# Altium footprint library v-reg.PCBLIB: 52 footprints (part 1 of 4)
Each footprint in its own frame and in the unit in brackets; x right, y up, seen from the top. Pads: shape width x height; smd on the part's side, far side on the other; paste and mask are expansions set on the pad; w line width, h text height; cw(c..) or ccw(c..) is an arc to the next point about the centre after c.
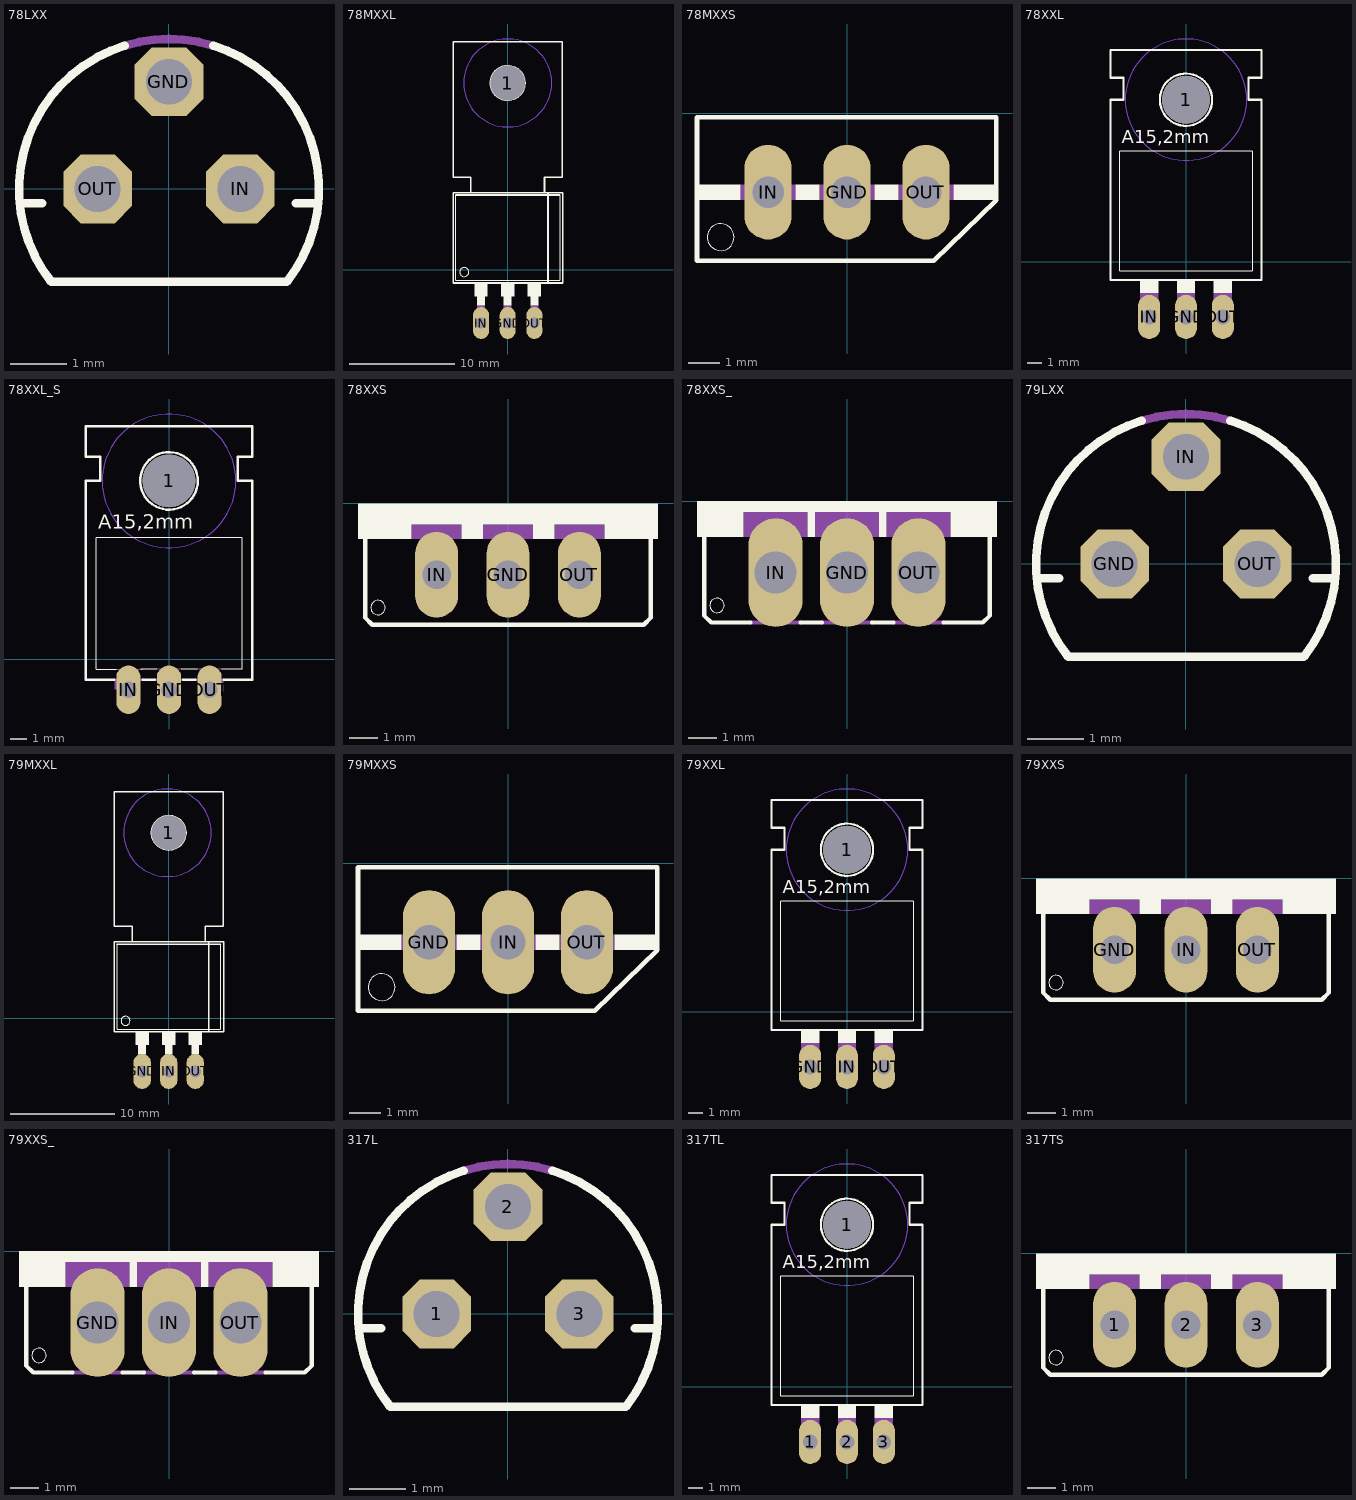
[diagram p0: the footprints below, top view; thin cyan lines are the x and y axes]

## 78LXX [mil]
pads (3):
  oct 48x48 hole 32: GND(0,75) IN(50,0) OUT(-50,0)
Top Overlay:
  lines w6: -104.53,-10 -88.74,-10 ; -82.48,-65 82.48,-65 ccw(c0.02,0) 30.98,100.33 ; -82.46,-65 cw(c0,0) -30.96,100.33 ; 88.74,-10 104.53,-10
Mechanical 16:
  lines w6: -30.96,100.33 cw(c0,-0.02) 30.96,100.33
  text "-" at -25,35 h77.5
  text "O" at -70,-25 h77.5
  text "I" at 25,-25 h77.5

## 78MXXL [mil]
pads (4):
  round 130 hole 130: 1(0,700)
  oval 60x120 hole 40: GND(0,-200) IN(-100,-200) OUT(100,-200)
Bottom Layer keep-out:
  circle w0: c0,700 r165
Top Overlay:
  circle w0: c-163,-9 r17
  circle w6: c0,700 r65
  rectangle: -25,-100 25,-50
  rectangle: 75,-100 125,-50
  rectangle: -125,-100 -75,-50
  rectangle: 85,-135 115,-100
  rectangle: -15,-135 15,-100
  rectangle: -115,-135 -85,-100
  lines w2: -195,280 -195,-40 195,-40 195,280
  lines w6: -195,280 195,280 ; -138,289 -138,347 -205,347 -205,855 205,855 205,347 138,347 138,289 ; -138,289 -205,289 -205,-50 151,-50 ; -138,289 138,289 ; 138,289 151,289 ; 151,-50 151,289 ; 151,-50 207,-50 207,289 151,289
Mechanical 16:
  rectangle: 85,-200 115,-135
  rectangle: -15,-200 15,-135
  rectangle: -115,-200 -85,-135
  text "-" at -20,-25 h77.5
  text "O" at 80,-25 h77.5
  text "I" at -115,-25 h77.5
Via Holes:
  circle w0: c0,700 r165

## 78MXXS [mil]
pads (3):
  oval 60x120 hole 40: GND(0,-100) IN(-100,-100) OUT(100,-100)
Top Overlay:
  circle w0: c-160,-157 r17
  rectangle: 135,-110 190,-90
  rectangle: 35,-110 65,-90
  rectangle: -65,-110 -35,-90
  rectangle: -190,-110 -135,-90
  lines w6: -190,-187 110,-187 189,-110 189,-5 -190,-5 -190,-187
Mechanical 16:
  rectangle: -135,-110 -65,-90
  rectangle: -35,-110 35,-90
  rectangle: 65,-110 135,-90
  text "-" at -20,-70 h77.5
  text "I" at -120,-70 h77.5
  text "O" at 80,-70 h77.5

## 78XXL [mil]
pads (4):
  round 130 hole 130: 1(0,440)
  oval 60x120 hole 40: GND(0,-150) IN(-100,-150) OUT(100,-150)
Bottom Layer keep-out:
  circle w0: c0,440 r165
Top Overlay:
  circle w6: c0,440 r71
  rectangle: 75,-85 125,-50
  rectangle: -25,-85 25,-50
  rectangle: -125,-85 -75,-50
  lines w2: -180,-25 180,-25 180,300 -180,300 -180,-25
  lines w6: -205,-50 205,-50 205,440 170,440 170,500 205,500 205,575 -205,575 -205,500 -170,500 -170,440 -205,440 -205,-50
  text "A15,2mm" at -175,310 h60.45
Mechanical 16:
  rectangle: 75,-150 125,-85
  rectangle: -25,-150 25,-85
  rectangle: -125,-150 -75,-85
  text "-" at -20,0 h77.5
  text "I" at -120,0 h77.5
  text "O" at 80,0 h77.5
Via Holes:
  circle w0: c0,440 r165

## 78XXL_S [mil]
pads (4):
  round 130 hole 130: 1(0,440)
  oval 60x120 hole 40: GND(0,-75) IN(-100,-75) OUT(100,-75)
Bottom Layer keep-out:
  circle w0: c0,440 r165
Top Overlay:
  circle w6: c0,440 r71
  lines w2: -130,-25 -180,-25 -180,300 180,300 180,-25 130,-25 ; -70,-25 -30,-25 ; 30,-25 70,-25
  lines w6: -135,-50 -205,-50 -205,440 -170,440 -170,500 -205,500 -205,575 205,575 205,500 170,500 170,440 205,440 205,-50 135,-50 ; -65,-50 -35,-50 ; 35,-50 65,-50
  text "A15,2mm" at -175,310 h60.45
Mechanical 16:
  rectangle: -30,-80 30,-50
  rectangle: 80,-80 135,-50
  rectangle: -135,-75 -80,-50
  lines w2: -130,-25 -65,-25 ; -30,-25 30,-25 ; 70,-25 130,-25
  lines w6: -135,-50 -65,-50 ; -35,-50 35,-50 ; 65,-50 135,-50
Via Holes:
  circle w0: c0,440 r165

## 78XXS [mil]
pads (3):
  oval 60x120 hole 40: GND(0,-100) IN(-100,-100) OUT(100,-100)
Top Overlay:
  circle w0: c-182,-146 r10
  rectangle: -210,-50 -135,0
  rectangle: -135,-30 -65,0
  rectangle: -65,-50 -35,0
  rectangle: -35,-30 35,0
  rectangle: 35,-50 65,0
  rectangle: 65,-30 135,0
  rectangle: 135,-50 210,0
  lines w6: -200,-45 -200,-160 -190,-170 190,-170 200,-160 200,-45
Mechanical 16:
  rectangle: -135,-50 -65,-30
  rectangle: -35,-50 35,-30
  rectangle: 65,-50 135,-30
  text "-" at -25,-150 h77.5
  text "I" at -125,-150 h77.5
  text "O" at 75,-150 h77.5

## 78XXS_ [mil]
pads (3):
  oval 76x152 hole 59: GND(0,-100) IN(-100,-100) OUT(100,-100)
Top Overlay:
  circle w0: c-182,-146 r10
  rectangle: -210,-50 -145,0
  rectangle: -145,-15 -55,0
  rectangle: -55,-50 -45,0
  rectangle: 45,-50 55,0
  rectangle: -45,-15 45,0
  rectangle: 55,-15 145,0
  rectangle: 145,-50 210,0
  lines w6: -200,-45 -200,-160 -190,-170 -135,-170 ; -65,-170 -35,-170 ; 35,-170 65,-170 ; 135,-170 190,-170 200,-160 200,-45
Mechanical 16:
  rectangle: -145,-50 -55,-15
  rectangle: -45,-50 45,-15
  rectangle: 55,-50 145,-15
  lines w6: -135,-170 -65,-170 ; -35,-170 35,-170 ; 65,-170 135,-170
  text "-" at -25,-150 h77.5
  text "O" at 75,-150 h77.5
  text "I" at -125,-150 h77.5

## 79LXX [mil]
pads (3):
  oct 48x48 hole 32: GND(-50,0) IN(0,75) OUT(50,0)
Top Overlay:
  lines w6: -104.53,-10 -88.74,-10 ; -82.48,-65 82.48,-65 ccw(c0.02,0) 30.98,100.33 ; -82.46,-65 cw(c0,0) -30.96,100.33 ; 88.74,-10 104.53,-10
Mechanical 16:
  lines w6: -30.96,100.33 cw(c0,-0.02) 30.96,100.33
  text "+" at -70,-25 h77.5
  text "O" at 25,-25 h77.5
  text "I" at -25,35 h77.5

## 79MXXL [mil]
pads (4):
  round 130 hole 130: 1(0,700)
  oval 66x132 hole 44: GND(-100,-200) IN(0,-200) OUT(100,-200)
Bottom Layer keep-out:
  circle w0: c-5,700 r165
Top Overlay:
  circle w0: c-163,-9 r17
  circle w6: c0,700 r65
  rectangle: -25,-100 25,-50
  rectangle: 75,-100 125,-50
  rectangle: -125,-100 -75,-50
  rectangle: 85,-135 115,-100
  rectangle: -15,-135 15,-100
  rectangle: -115,-135 -85,-100
  lines w2: -195,280 -195,-40 195,-40 195,280
  lines w6: -195,280 195,280 ; -138,289 -138,347 -205,347 -205,855 205,855 205,347 138,347 138,289 ; -138,289 -205,289 -205,-50 151,-50 ; -138,289 138,289 ; 138,289 151,289 ; 151,-50 151,289 ; 151,-50 207,-50 207,289 151,289
Mechanical 16:
  rectangle: -115,-200 -85,-135
  rectangle: -15,-200 15,-135
  rectangle: 85,-200 115,-135
  text "+" at -115,-25 h77.5
  text "I" at -20,-25 h77.5
  text "O" at 80,-25 h77.5
Via Holes:
  circle w0: c-5,700 r165

## 79MXXS [mil]
pads (3):
  oval 66x132 hole 44: GND(-100,-100) IN(0,-100) OUT(100,-100)
Top Overlay:
  circle w0: c-160,-157 r17
  rectangle: 135,-110 190,-90
  rectangle: 35,-110 65,-90
  rectangle: -65,-110 -35,-90
  rectangle: -190,-110 -135,-90
  lines w6: -190,-187 110,-187 189,-110 189,-5 -190,-5 -190,-187
Mechanical 16:
  rectangle: -135,-110 -65,-90
  rectangle: -35,-110 35,-90
  rectangle: 65,-110 135,-90
  text "+" at -120,-70 h77.5
  text "I" at -20,-70 h77.5
  text "O" at 80,-70 h77.5

## 79XXL [mil]
pads (4):
  round 130 hole 130: 1(0,440)
  oval 60x120 hole 40: GND(-100,-150) IN(0,-150) OUT(100,-150)
Bottom Layer keep-out:
  circle w0: c0,440 r165
Top Overlay:
  circle w6: c0,440 r71
  rectangle: 75,-85 125,-50
  rectangle: -25,-85 25,-50
  rectangle: -125,-85 -75,-50
  lines w2: -180,-25 180,-25 180,300 -180,300 -180,-25
  lines w6: -205,-50 205,-50 205,440 170,440 170,500 205,500 205,575 -205,575 -205,500 -170,500 -170,440 -205,440 -205,-50
  text "A15,2mm" at -175,310 h60.45
Mechanical 16:
  rectangle: 75,-150 125,-85
  rectangle: -25,-150 25,-85
  rectangle: -125,-150 -75,-85
  text "+" at -125,0 h77.5
  text "O" at 80,0 h77.5
  text "I" at -20,0 h77.5
Via Holes:
  circle w0: c0,440 r165

## 79XXS [mil]
pads (3):
  oval 60x120 hole 40: GND(-100,-100) IN(0,-100) OUT(100,-100)
Top Overlay:
  circle w0: c-182,-146 r10
  rectangle: -210,-50 -135,0
  rectangle: -135,-30 -65,0
  rectangle: -65,-50 -35,0
  rectangle: -35,-30 35,0
  rectangle: 35,-50 65,0
  rectangle: 65,-30 135,0
  rectangle: 135,-50 210,0
  lines w6: -200,-45 -200,-160 -190,-170 190,-170 200,-160 200,-45
Mechanical 16:
  rectangle: -135,-50 -65,-30
  rectangle: -35,-50 35,-30
  rectangle: 65,-50 135,-30
  text "+" at -125,-150 h77.5
  text "I" at -25,-150 h77.5
  text "O" at 75,-150 h77.5

## 79XXS_ [mil]
pads (3):
  oval 76x152 hole 59: GND(-100,-100) IN(0,-100) OUT(100,-100)
Top Overlay:
  circle w0: c-182,-146 r10
  rectangle: -210,-50 -145,0
  rectangle: -145,-15 -55,0
  rectangle: -55,-50 -45,0
  rectangle: 45,-50 55,0
  rectangle: -45,-15 45,0
  rectangle: 55,-15 145,0
  rectangle: 145,-50 210,0
  lines w6: -200,-45 -200,-160 -190,-170 -135,-170 ; -65,-170 -35,-170 ; 35,-170 65,-170 ; 135,-170 190,-170 200,-160 200,-45
Mechanical 16:
  rectangle: -145,-50 -55,-15
  rectangle: -45,-50 45,-15
  rectangle: 55,-50 145,-15
  lines w6: -135,-170 -65,-170 ; -35,-170 35,-170 ; 65,-170 135,-170
  text "O" at 75,-150 h77.5
  text "+" at -125,-150 h77.5
  text "I" at -25,-150 h77.5

## 317L [mil]
pads (3):
  oct 48x48 hole 32: 1(-50,0) 2(0,75) 3(50,0)
Top Overlay:
  lines w6: -104.53,-10 -88.74,-10 ; -82.48,-65 82.48,-65 ccw(c0.02,0) 30.98,100.33 ; -82.46,-65 cw(c0,0) -30.96,100.33 ; 88.74,-10 104.53,-10
Mechanical 16:
  lines w6: -30.96,100.33 cw(c0,-0.02) 30.96,100.33
  text "O" at -25,35 h77.5
  text "I" at 25,-25 h77.5
  text "A" at -75,-25 h77.5

## 317TL [mil]
pads (4):
  oval 60x120 hole 40: 1(-100,-150) 2(0,-150) 3(100,-150)
  round 130 hole 130: 1(0,440)
Bottom Layer keep-out:
  circle w0: c0,440 r165
Top Overlay:
  circle w6: c0,440 r71
  rectangle: 75,-85 125,-50
  rectangle: -25,-85 25,-50
  rectangle: -125,-85 -75,-50
  lines w2: -180,-25 180,-25 180,300 -180,300 -180,-25
  lines w6: -205,-50 205,-50 205,440 170,440 170,500 205,500 205,575 -205,575 -205,500 -170,500 -170,440 -205,440 -205,-50
  text "A15,2mm" at -175,310 h60.45
Mechanical 16:
  rectangle: 75,-150 125,-85
  rectangle: -25,-150 25,-85
  rectangle: -125,-150 -75,-85
  text "O" at -20,0 h77.5
  text "I" at 80,0 h77.5
  text "A" at -120,0 h77.5
Via Holes:
  circle w0: c0,440 r165

## 317TS [mil]
pads (3):
  oval 60x120 hole 40: 1(-100,-100) 2(0,-100) 3(100,-100)
Top Overlay:
  circle w0: c-182,-146 r10
  rectangle: -210,-50 -135,0
  rectangle: -135,-30 -65,0
  rectangle: -65,-50 -35,0
  rectangle: -35,-30 35,0
  rectangle: 35,-50 65,0
  rectangle: 65,-30 135,0
  rectangle: 135,-50 210,0
  lines w6: -200,-45 -200,-160 -190,-170 190,-170 200,-160 200,-45
Mechanical 16:
  rectangle: -135,-50 -65,-30
  rectangle: -35,-50 35,-30
  rectangle: 65,-50 135,-30
  text "O" at -25,-150 h77.5
  text "I" at 75,-150 h77.5
  text "A" at -125,-150 h77.5